# Altium schematic symbol library Analog.SchLib: 15 symbols
Pins are listed as number, name and electrical type; pins without a type are passive.

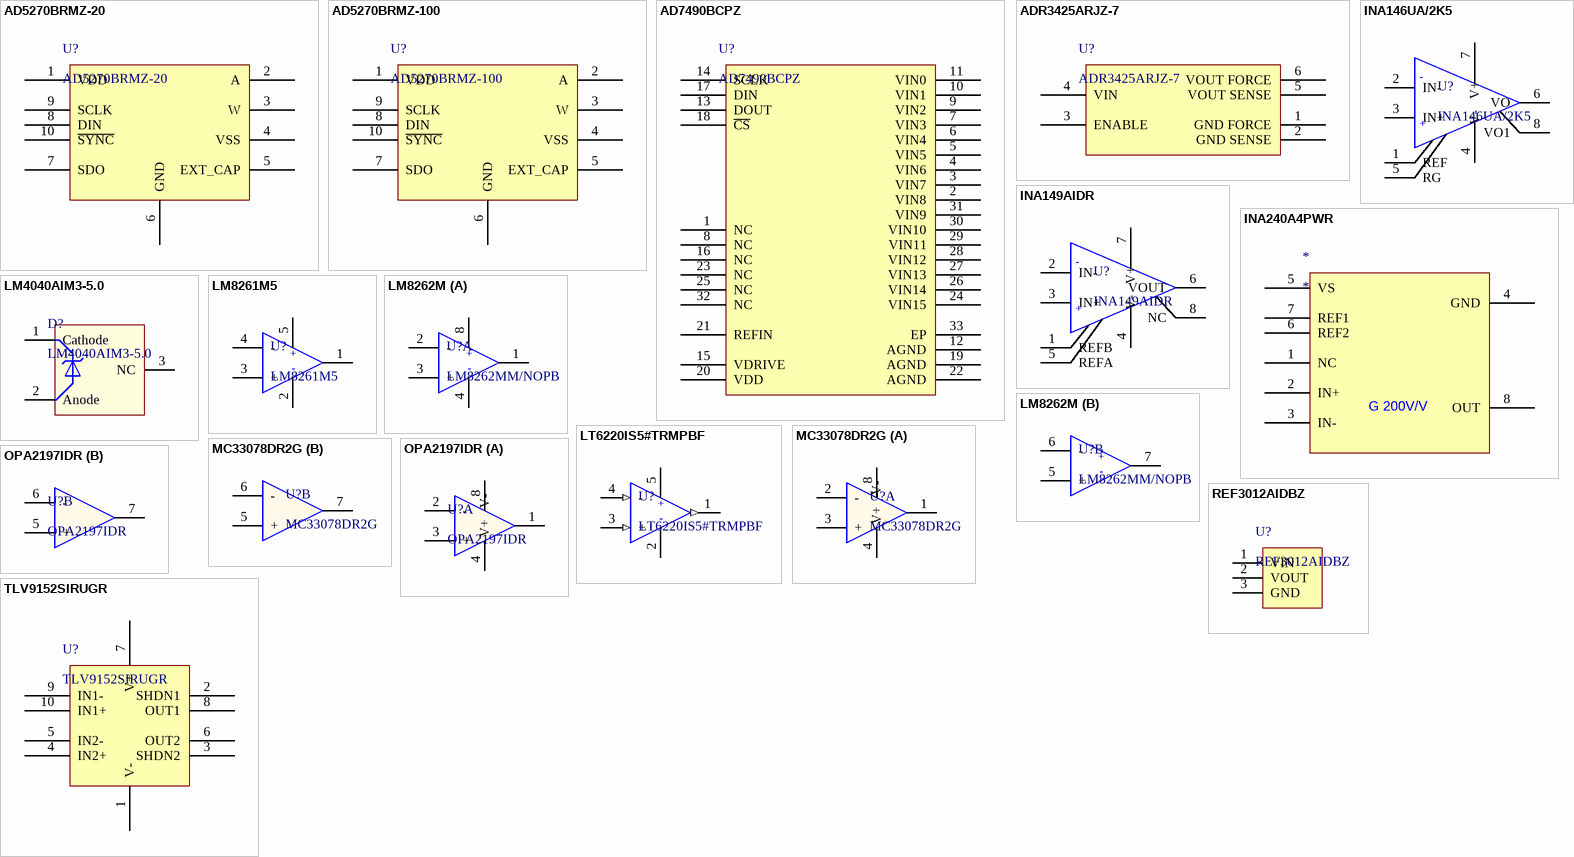
[diagram p0: symbols AD5270BRMZ-20 to TLV9152SIRUGR]

## AD5270BRMZ-20
designator U?
AD5270BRMZ-20 20K数字电位器
footprint MSOP-10_3x3mm_P0.5mm (TSSOP, 10-Leads, Body 3.00x3.00mm, Pitch 0.50mm, IPC Medium Density)
pins: 1 VDD, 2 A, 3 W, 4 VSS, 5 EXT_CAP, 6 GND, 7 SDO, 8 DIN, 9 SCLK, 10 ~{SYNC}

## AD5270BRMZ-100
designator U?
AD5270BRMZ-100 100K数字电位器
footprint MSOP-10_3x3mm_P0.5mm (TSSOP, 10-Leads, Body 3.00x3.00mm, Pitch 0.50mm, IPC Medium Density)
pins: 1 VDD, 2 A, 3 W, 4 VSS, 5 EXT_CAP, 6 GND, 7 SDO, 8 DIN, 9 SCLK, 10 ~{SYNC}

## AD7490BCPZ
designator U?
16-Channel, 1 MSPS, 12-Bit ADC with Sequencer
footprint QFN-32_1EP_5x5mm_P0.5mm_EP3.1x3.1mm (QFN, 32-Leads, Body 5.00x5.00mm, Pitch 0.50mm, Thermal Pad 3.10x3.10mm, IPC Medium Density)
pins: 1 NC, 2 VIN8, 3 VIN7, 4 VIN6, 5 VIN5, 6 VIN4, 7 VIN3, 8 NC, 9 VIN2, 10 VIN1, 11 VIN0, 12 AGND, 13 DOUT, 14 SCLK, 15 VDRIVE, 16 NC, 17 DIN, 18 ~{CS}, 19 AGND, 20 VDD, 21 REFIN, 22 AGND, 23 NC, 24 VIN15, 25 NC, 26 VIN14, 27 VIN13, 28 VIN12, 29 VIN11, 30 VIN10, 31 VIN9, 32 NC, 33 EP

## ADR3425ARJZ-7
designator U?
微功耗、高精度 基准电压源
footprint SOT-23-6 (SOT23, 6-Leads, Body 2.90x2.80mm, Pitch 0.95mm, IPC Medium Density)
pins: 1 GND FORCE, 2 GND SENSE, 3 ENABLE, 4 VIN, 5 VOUT SENSE, 6 VOUT FORCE

## INA146UA/2K5
designator U?
INA146 高电压可编程增益差分放大器
footprint SO-8_3.9x4.9mm_P1.27mm (SOIC, 8-Leads, Body 4.9x3.90mm, Pitch 1.27mm, IPC Medium Density)
pins: 1 REF, 2 IN-, 3 IN+, 4 V-, 5 RG, 6 VO, 7 V+, 8 VO1
text: -; +

## INA149AIDR
designator U?
高共模电压差动放大器
footprint SO-8_3.9x4.9mm_P1.27mm (SOIC, 8-Leads, Body 4.9x3.90mm, Pitch 1.27mm, IPC Medium Density)
pins: 1 REFB, 2 IN-, 3 IN+, 4 V-, 5 REFA, 6 VOUT, 7 V+, 8 NC
text: -; +

## INA240A4PWR
designator *
footprint TSSOP-8_3x4.4_P0.65mm (TSOP, 8-Leads, Body 3.00x4.40mm, Pitch 0.65mm, IPC Medium Density)
pins: 1 NC, 2 IN+, 3 IN-, 4 GND, 5 VS, 6 REF2, 7 REF1, 8 OUT
text: G 200V/V

## LM4040AIM3-5.0
designator D?
LM4040-N/-Q1 精密微功耗并联电压基准
footprint SOT-23 (Footprint not found)
pins: 1 Cathode, 2 Anode, 3 NC

## LM8261M5
designator U?
LM8261 Single RRIO High Output Current & Unlimited Cap Load Op Amp
footprint SOT-23-5 (SOT23, 5-Leads, Body 2.90x2.45mm, Pitch 0.95mm, IPC Medium Density)
pins: 1 OUT, 2 GND, 3 +, 4 -, 5 VCC

## LM8262M
designator U?, comment LM8262MM/NOPB
LM8262 Dual RRIO, High Output Current and Unlimited Cap Load Op Amp in VSSOP
footprint VSSOP-8_3x3mm_P0.65mm (TSOP, 8-Leads, Body 3.00x3.00mm, Pitch 0.65mm, IPC Medium Density)
part A pins: 1 OUT, 2 -, 3 +, 4 GND, 8 VCC
part B pins: 5 +, 6 -, 7 OUT

## LT6220IS5#TRMPBF
designator U?
footprint SOT-23-5 (SOT23, 5-Leads, Body 2.90x2.45mm, Pitch 0.95mm, IPC Medium Density)
pins: 1 OUT (out), 2 GND, 3 + (in), 4 - (in), 5 VCC

## MC33078DR2G
designator U?
footprint SO-8_3.9x4.9mm_P1.27mm (SOIC, 8-Leads, Body 4.9x3.90mm, Pitch 1.27mm, IPC Medium Density)
part A pins: 1 OUT, 2 -, 3 +, 4        V-, 8         V+
part B pins: 5 +, 6 -, 7 OUT

## OPA2197IDR
designator U?
OPAx197 36V 轨到轨输入/输出 低失调电压精密运算放大器
footprint SO-8_3.9x4.9mm_P1.27mm (SOIC, 8-Leads, Body 4.9x3.90mm, Pitch 1.27mm, IPC Medium Density)
part A pins: 1 OUT, 2 -, 3 +, 4        V-, 8         V+
part B pins: 5 +, 6 -, 7 OUT

## REF3012AIDBZ
designator U?
1.25V 基准源
footprint SOT-23 (SOT23, 3-Leads, Body 2.90x2.45mm, Pitch 0.95mm, IPC Medium Density)
pins: 1 VIN, 2 VOUT, 3 GND

## TLV9152SIRUGR
designator U?
TLV915x 4.5-MHz、轨到轨输入/输出、低失调电压、低噪声运算放大器
footprint X2-QFN-10 (QFN, 10-Leads, Body 1.50x2.00mm, Pitch 0.50mm, IPC Medium Density)
pins: 1 V-, 2 SHDN1, 3 SHDN2, 4 IN2+, 5 IN2-, 6 OUT2, 7 V+, 8 OUT1, 9 IN1-, 10 IN1+